# EAGLE library part 1825057-6 (library Switches)
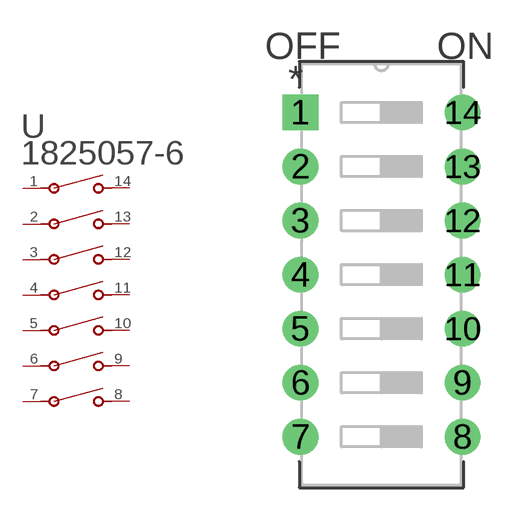
[diagram p38: symbol with the pads of SWDIP14_300X138P100; footprint SWDIP14_300X138P100]

Designator prefix U

## 1825057-6 (BUILT_BY: EMA_UL_Team; CATEGORY: DIP & SIP Switches; COPYRIGHT: Copyright (C) 2016 Accelerated Designs. All rights reserved; DESCRIPTION: ADE0704=DIP SWITCH,EXT,THRU/HL; MANUFACTURER_PART_NUMBER: 1825057-6; PART_STATUS: active; SERIES: Alcoswitch DIP,Alcoswitch DIP ADE; VENDOR: TE Connectivity)  [SWDIP14_300X138P100]
1  1  pas
2  2  pas
3  3  pas
4  4  pas
5  5  pas
6  6  pas
7  7  pas
8  8  pas
9  9  pas
10  10  pas
11  11  pas
12  12  pas
13  13  pas
14  14  pas

## Footprint SWDIP14_300X138P100 (pad centres in mm)
drill 0.965 pad 1.676 square: 1 -7.62,15.24
drill 0.965 pad 1.676: 2 -7.62,12.7; 3 -7.62,10.16; 4 -7.62,7.62; 5 -7.62,5.08; 6 -7.62,2.54; 7 -7.62,0; 8 0,0; 9 0,2.54; 10 0,5.08; 11 0,7.62; 12 0,10.16; 13 0,12.7; 14 0,15.24